# Altium footprint library libreriaPcb.PcbLib: 683 footprints (part 14 of 44)
Each footprint in its own frame and in the unit in brackets; x right, y up, seen from the top. Pads: shape width x height; smd on the part's side, far side on the other; paste and mask are expansions set on the pad; w line width, h text height; cw(c..) or ccw(c..) is an arc to the next point about the centre after c.
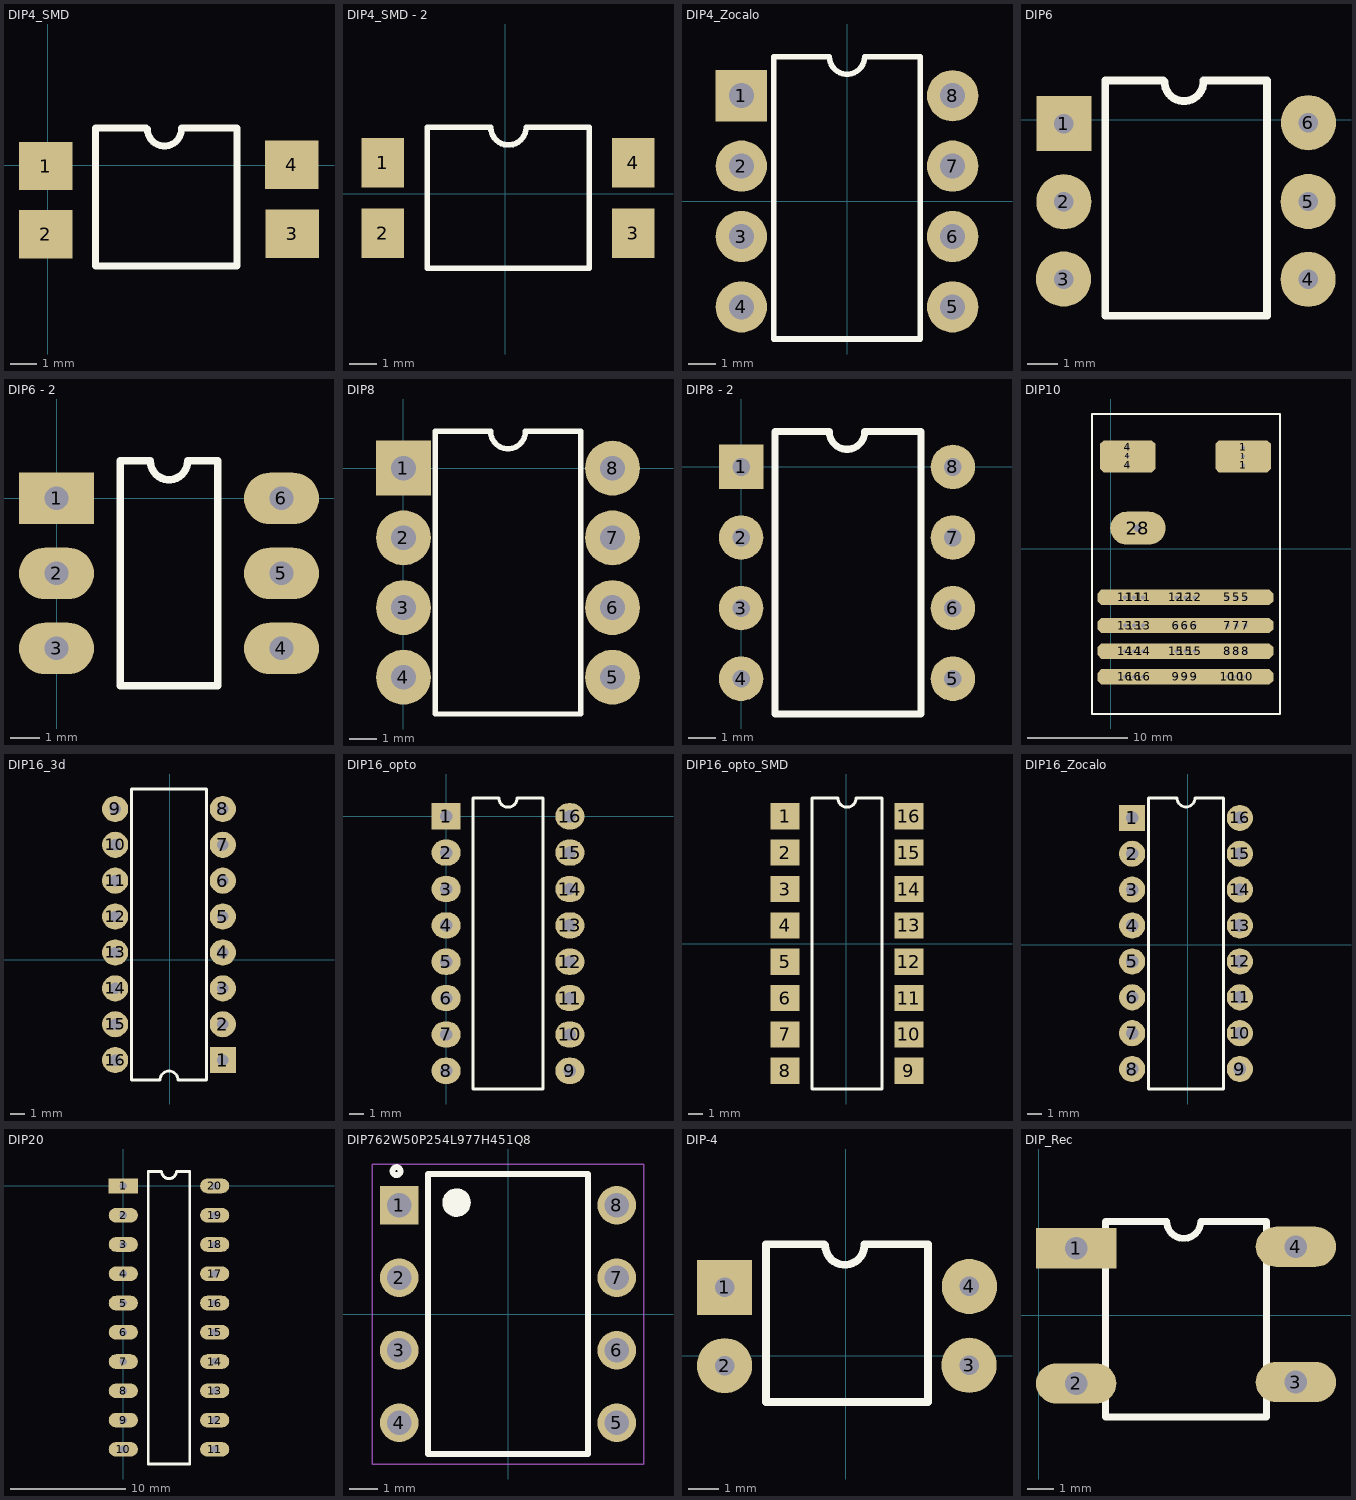
[diagram p13: the footprints below, top view; thin cyan lines are the x and y axes]

## DIP4_SMD [mm]
pads (4):
  rect 2x1.8 smd: 1(-0.075,-0.025) 2(-0.075,-2.575) 3(9.125,-2.55) 4(9.1,0.025)
Top Overlay:
  lines w0.254: 3.675,1.395 1.785,1.395 1.785,-3.755 7.065,-3.755 7.065,1.395 6.005,1.395 4.995,1.395 ; 3.719,1.356 ccw(c4.354,1.356) 4.989,1.356
3D body: height 3, standoff 0, extent 1.658,-3.865 7.192,1.522

## DIP4_SMD - 2 [mm]
pads (4):
  rect 1.52x1.78 smd: 1(-4.402,1.121) 2(-4.402,-1.419) 3(4.615,-1.419) 4(4.615,1.121)
Top Overlay:
  lines w0.2: -2.794,-2.679 -2.794,2.391 -0.514,2.391 ccw(c0.121,2.391) 0.756,2.391 3.036,2.391 3.036,-2.679 -2.794,-2.679
3D body: height 3.5, standoff 0.2, extent -3.154,-2.679 3.346,2.371
3D body: height 4, standoff 3.5, extent -2.779,-2.679 3.046,2.391
3D body: height 0.5, standoff 0, extent -5.037,0.496 -3.154,1.746
3D body: height 0.5, standoff 0, extent -5.037,-2.044 -3.154,-0.794
3D body: height 0.5, standoff 0, extent 3.396,-2.044 5.25,-0.794
3D body: height 0.5, standoff 0, extent 3.396,0.496 5.25,1.746

## DIP4_Zocalo [mm]
pads (8):
  rect 1.85x1.85 hole 0.9: 1(-3.81,3.81)
  round 1.85 hole 0.9: 2(-3.81,1.27) 3(-3.81,-1.27) 4(-3.81,-3.81) 5(3.81,-3.81) 6(3.81,-1.27) 7(3.81,1.27) 8(3.81,3.81)
Top Overlay:
  lines w0.2: -2.65,-4.967 2.65,-4.967 2.65,5.22 0.635,5.22 cw(c0,5.22) -0.635,5.22 -2.65,5.22 -2.65,-4.967
3D body: height 0, standoff -5, extent 2.526,-5.117 4.908,5.258
3D body: height 0, standoff -5, extent -5.024,-5.117 -2.642,5.258

## DIP6 [mm]
pads (6):
  rect 1.8x1.8 hole 0.635: 1(1.83,-0.13)
  round 1.8 hole 0.635: 2(1.83,-2.68) 3(1.82,-5.2) 4(9.8,-5.21) 5(9.8,-2.67) 6(9.81,-0.1)
Top Overlay:
  lines w0.254: 5.07,1.28 3.18,1.28 3.18,-6.4 8.46,-6.4 8.46,1.28 7.4,1.28 6.39,1.28 ; 5.114,1.241 ccw(c5.749,1.241) 6.384,1.241
3D body: height 3, standoff 0, extent 3.053,-6.527 8.587,1.407

## DIP6 - 2 [mm]
pads (6):
  rect 2.54x1.75 hole 0.8: 1(0,0)
  oval 2.54x1.75 hole 0.8: 2(0,-2.54) 3(0,-5.08) 4(7.62,-5.08) 5(7.62,-2.54) 6(7.62,0)
Top Overlay:
  lines w0.254: 2.159,-6.35 2.159,1.27 3.175,1.27 ccw(c3.81,1.27) 4.445,1.27 5.461,1.27 5.461,-6.35 2.159,-6.35
3D body: height 3, standoff 0, extent 2.158,-6.351 5.462,1.271

## DIP8 [mm]
pads (8):
  rect 2x2 hole 0.9: 1(0,0)
  round 2 hole 0.9: 2(0,-2.54) 3(0,-5.08) 4(0,-7.62) 5(7.62,-7.62) 6(7.62,-5.08) 7(7.62,-2.54) 8(7.62,0)
Top Overlay:
  lines w0.2: 1.16,-8.96 1.16,1.34 3.175,1.34 ccw(c3.81,1.34) 4.445,1.34 6.46,1.34 6.46,-8.96 1.16,-8.96

## DIP8 - 2 [mm]
pads (8):
  rect 1.6x1.6 hole 0.635: 1(0,0)
  round 1.6 hole 0.635: 2(0,-2.54) 3(0,-5.08) 4(0,-7.62) 5(7.62,-7.62) 6(7.62,-5.08) 7(7.62,-2.54) 8(7.62,0)
Top Overlay:
  lines w0.254: 1.225,-8.89 6.475,-8.89 6.475,1.27 4.445,1.27 cw(c3.81,1.27) 3.175,1.27 1.225,1.27 1.225,-8.89
3D body "dip8.stp": height 5.56, standoff -4.48, extent -0.581,-9.855 8.455,2.298

## DIP10 [mil]
pads (43):
  oct 216.54x55 hole 15: 1(515,325) 1(515,395) 4(65,325) 4(65,395)
  rect 216.54x40 hole 15 paste+0: 1(515,360) 4(65,360)
  oct 216.54x60 hole 15: 5(455,-190) 5(525,-190) 6(255,-300) 6(325,-300) 7(455,-300) 7(525,-300) 8(455,-400) 8(525,-400) 9(255,-500) 9(325,-500) 10(455,-500) 10(525,-500) 11(55,-190) 11(125,-190) 12(255,-190) 12(325,-190) 13(55,-300) 13(125,-300) 14(55,-400) 14(125,-400) 15(255,-400) 15(325,-400) 16(55,-500) 16(125,-500)
  rect 216.54x60 hole 15 paste+0: 5(490,-190) 6(290,-300) 7(490,-300) 8(490,-400) 9(290,-500) 10(490,-500) 11(90,-190) 12(290,-190) 13(90,-300) 14(90,-400) 15(290,-400) 16(90,-500)
  oval 216.54x127.95 hole 30: 28(105,80)
Top Overlay:
  lines w7.87: -75,-645 660,-645 660,525 275,525 -75,525 -75,-645

## DIP16_3d [mm]
pads (16):
  rect 1.85x1.85 hole 0.8: 1(3.761,-7.119)
  round 1.85 hole 0.8: 2(3.761,-4.579) 3(3.761,-2.039) 4(3.761,0.501) 5(3.761,3.041) 6(3.761,5.581) 7(3.761,8.121) 8(3.761,10.661) 9(-3.859,10.661) 10(-3.859,8.121) 11(-3.859,5.581) 12(-3.859,3.041) 13(-3.859,0.501) 14(-3.859,-2.039) 15(-3.859,-4.579) 16(-3.859,-7.119)
Top Overlay:
  lines w0.2: -2.699,-8.529 -2.699,12.071 2.601,12.071 2.601,-8.529 0.586,-8.529 ccw(c-0.049,-8.529) -0.684,-8.529 -2.699,-8.529
3D body: height 3, standoff 0, extent -2.699,-8.53 2.602,12.071

## DIP16_opto [mm]
pads (16):
  rect 2x1.8 hole 0.85: 1(0,0)
  oval 2x1.8 hole 0.85: 2(0,-2.5) 3(0,-5) 4(0,-7.5) 5(0,-10) 6(0,-12.5) 7(0,-15) 8(0,-17.5) 9(8.5,-17.5) 10(8.5,-15) 11(8.5,-12.5) 12(8.5,-10) 13(8.5,-7.5) 14(8.5,-5) 15(8.5,-2.5) 16(8.5,0)
Top Overlay:
  lines w0.2: 1.835,-18.75 6.665,-18.75 6.665,1.25 4.875,1.25 cw(c4.25,1.25) 3.625,1.25 1.835,1.25 1.835,-18.75
3D body: height 3, standoff 0, extent 1.834,-18.751 6.666,1.251

## DIP16_opto_SMD [mm]
pads (16):
  rect 2x1.8 smd: 1(-4.191,8.763) 2(-4.191,6.263) 3(-4.191,3.763) 4(-4.191,1.263) 5(-4.191,-1.237) 6(-4.191,-3.737) 7(-4.191,-6.237) 8(-4.191,-8.737) 9(4.309,-8.737) 10(4.309,-6.237) 11(4.309,-3.737) 12(4.309,-1.237) 13(4.309,1.263) 14(4.309,3.763) 15(4.309,6.263) 16(4.309,8.763)
Top Overlay:
  lines w0.2: -2.356,-9.987 2.474,-9.987 2.474,10.013 0.684,10.013 cw(c0.059,10.013) -0.566,10.013 -2.356,10.013 -2.356,-9.987
3D body: height 3, standoff 0, extent -2.357,-9.988 2.475,10.014

## DIP16_Zocalo [mm]
pads (16):
  rect 1.85x1.85 hole 0.9: 1(-3.927,8.977)
  round 1.85 hole 0.9: 2(-3.927,6.437) 3(-3.927,3.897) 4(-3.927,1.357) 5(-3.927,-1.183) 6(-3.927,-3.723) 7(-3.927,-6.263) 8(-3.927,-8.803) 9(3.693,-8.803) 10(3.693,-6.263) 11(3.693,-3.723) 12(3.693,-1.183) 13(3.693,1.357) 14(3.693,3.897) 15(3.693,6.437) 16(3.693,8.977)
Top Overlay:
  lines w0.2: -2.767,-10.213 2.533,-10.213 2.533,10.387 0.518,10.387 cw(c-0.117,10.387) -0.752,10.387 -2.767,10.387 -2.767,-10.213
3D body: height 0, standoff -5, extent 2.409,-10.375 4.791,10.425
3D body: height 0, standoff -5, extent -5.141,-10.375 -2.759,10.425

## DIP20 [mil]
pads (20):
  rect 100x50 hole 25: 1(0,0)
  oval 100x50 hole 25: 2(0,-100) 3(0,-200) 4(0,-300) 5(0,-400) 6(0,-500) 7(0,-600) 8(0,-700) 9(0,-800) 10(0,-900) 11(312,-900) 12(312,-800) 13(312,-700) 14(312,-600) 15(312,-500) 16(312,-400) 17(312,-300) 18(312,-200) 19(312,-100) 20(312,0)
Top Overlay:
  lines w10: 85,-950 227,-950 227,50 181,50 cw(c156,50) 131,50 85,50 85,-950

## DIP762W50P254L977H451Q8 [mm]
pads (8):
  rect 1.35x1.35 / inner round 1.35 / far side rect 1.35x1.35 hole 0.85 mask+0.102: 1(-3.81,3.81)
  round 1.35 hole 0.85 mask+0.102: 2(-3.81,1.27) 3(-3.81,-1.27) 4(-3.81,-3.81) 5(3.81,-3.81) 6(3.81,-1.27) 7(3.81,1.27) 8(3.81,3.81)
Top Overlay:
  circle w0.2: c-1.9,3.9 r0.141
  circle w0.2: c-1.7,3.9 r0.2
  circle w0.2: c-1.8,3.9 r0.224
  circle w0.2: c-3.9,5 r0.141
  circle w0.2: c-1.8,3.9 r0.4
  lines w0.2: -2.8,-4.9 -2.8,4.9 2.8,4.9 2.8,-4.9 -2.8,-4.9
Mechanical 15:
  lines w0.05: -4.75,-5.25 -4.75,5.25 4.75,5.25 4.75,-5.25 -4.75,-5.25
3D body "step_temp.STEP": height 4.51, standoff -3, extent -4.018,-5.09 4.018,5.09

## DIP-4 [mm]
pads (4):
  rect 1.8x1.8 hole 0.635: 1(-3.95,2.22)
  round 1.8 hole 0.635: 2(-3.95,-0.33) 3(4.02,-0.32) 4(4.03,2.25)
Top Overlay:
  lines w0.254: -0.71,3.63 -2.6,3.63 -2.6,-1.52 2.68,-1.52 2.68,3.63 1.62,3.63 0.61,3.63 ; -0.666,3.591 ccw(c-0.031,3.591) 0.604,3.591
3D body: height 3, standoff 0, extent -2.727,-1.63 2.807,3.757

## DIP_Rec [mm]
pads (4):
  rect 3x1.5 hole 0.85: 1(1.4,2.501)
  oval 3x1.5 hole 0.85: 2(1.4,-2.551) 3(9.602,-2.501) 4(9.602,2.551)
Top Overlay:
  lines w0.254: 4.701,3.501 2.501,3.501 2.501,-3.801 8.502,-3.801 8.502,3.501 6.052,3.501 cw(c5.417,3.501) 4.782,3.501
3D body: height 3, standoff 0, extent 2.374,-3.928 8.629,3.628